# EAGLE library part HD44780-4BIT (library pinconn)
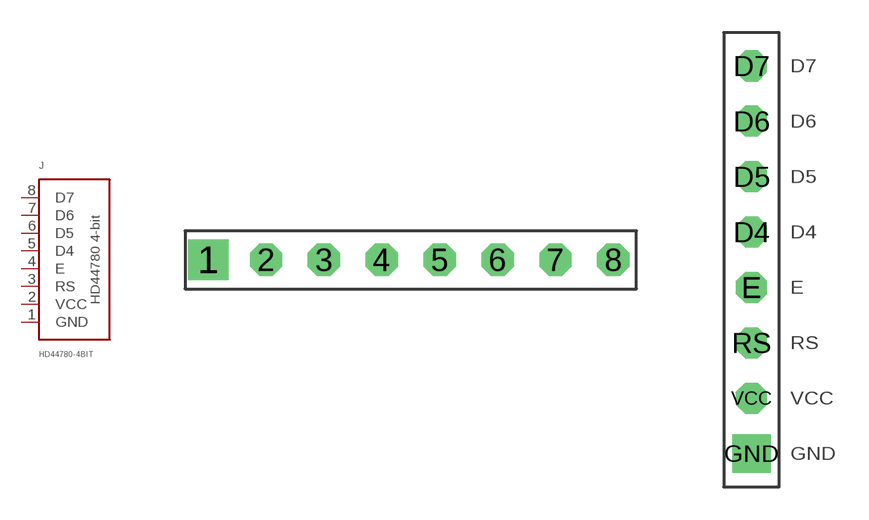
[diagram p2: symbol with the pads of CONN-8P; footprints CONN-8P, CONN-LCD44780]

Designator prefix J

## HD44780-4BIT-8PIN  [CONN-8P]
1  GND  pas
2  VCC  pas
3  RS  pas
4  E  pas
5  D4  pas
6  D5  pas
7  D6  pas
8  D7  pas

## HD44780-4BITLCD44780-8P  [CONN-LCD44780]
D4  D4  pas
D5  D5  pas
D6  D6  pas
D7  D7  pas
E  E  pas
GND  GND  pas
RS  RS  pas
VCC  VCC  pas

## Footprint CONN-8P (pad centres in mm)
drill 0.9 pad 1.778 square: 1 0,0
drill 0.9 pad 1.422 octagon: 2 2.54,0; 3 5.08,0; 4 7.62,0; 5 10.16,0; 6 12.7,0; 7 15.24,0; 8 17.78,0

## Footprint CONN-LCD44780 (pad centres in mm)
drill 0.9 pad 1.422 octagon: D4 0,10.16; D5 0,12.7; D6 0,15.24; D7 0,17.78; E 0,7.62; RS 0,5.08; VCC 0,2.54
drill 0.9 pad 1.778 square: GND 0,0